# EAGLE library part MA730 (library MA730)
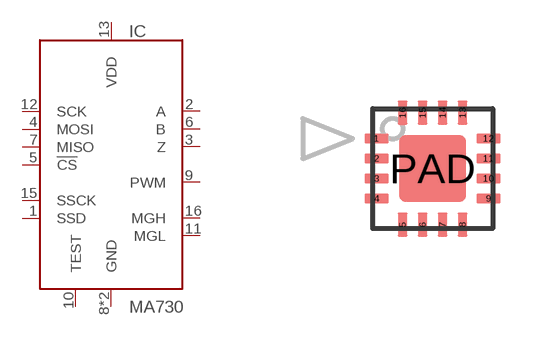
[diagram p0: symbol with the pads of QFN16_0.5_3X3; footprint QFN16_0.5_3X3]

Designator prefix IC

## MA730GQ (MARK: MA730GQ_; MF: MPS; MPN: MA730GQ)  [QFN16_0.5_3X3]
1  SSD  out
2  A  out
3  Z  out
4  MOSI  in
5  !CS  in
6  B  out
7  MISO
8  GND  pwr
9  PWM  out
10  TEST  pas
11  MGL  out
12  SCK  in
13  VDD  pwr
15  SSCK  in
16  MGH  out
PAD  GND  pwr

## Footprint QFN16_0.5_3X3 (pad centres in mm)
smd 0.6 x 0.24: 1 -1.4,0.75; 2 -1.4,0.25; 3 -1.4,-0.25; 4 -1.4,-0.75; 9 1.4,-0.75; 10 1.4,-0.25; 11 1.4,0.25; 12 1.4,0.75
smd 0.24 x 0.6: 5 -0.75,-1.4; 6 -0.25,-1.4; 7 0.25,-1.4; 8 0.75,-1.4; 13 0.75,1.4; 14 0.25,1.4; 15 -0.25,1.4; 16 -0.75,1.4
smd 1.68 x 1.68: PAD 0,0